# Altium integrated library Q-Resistors.IntLib: 917 symbols (part 6 of 8)
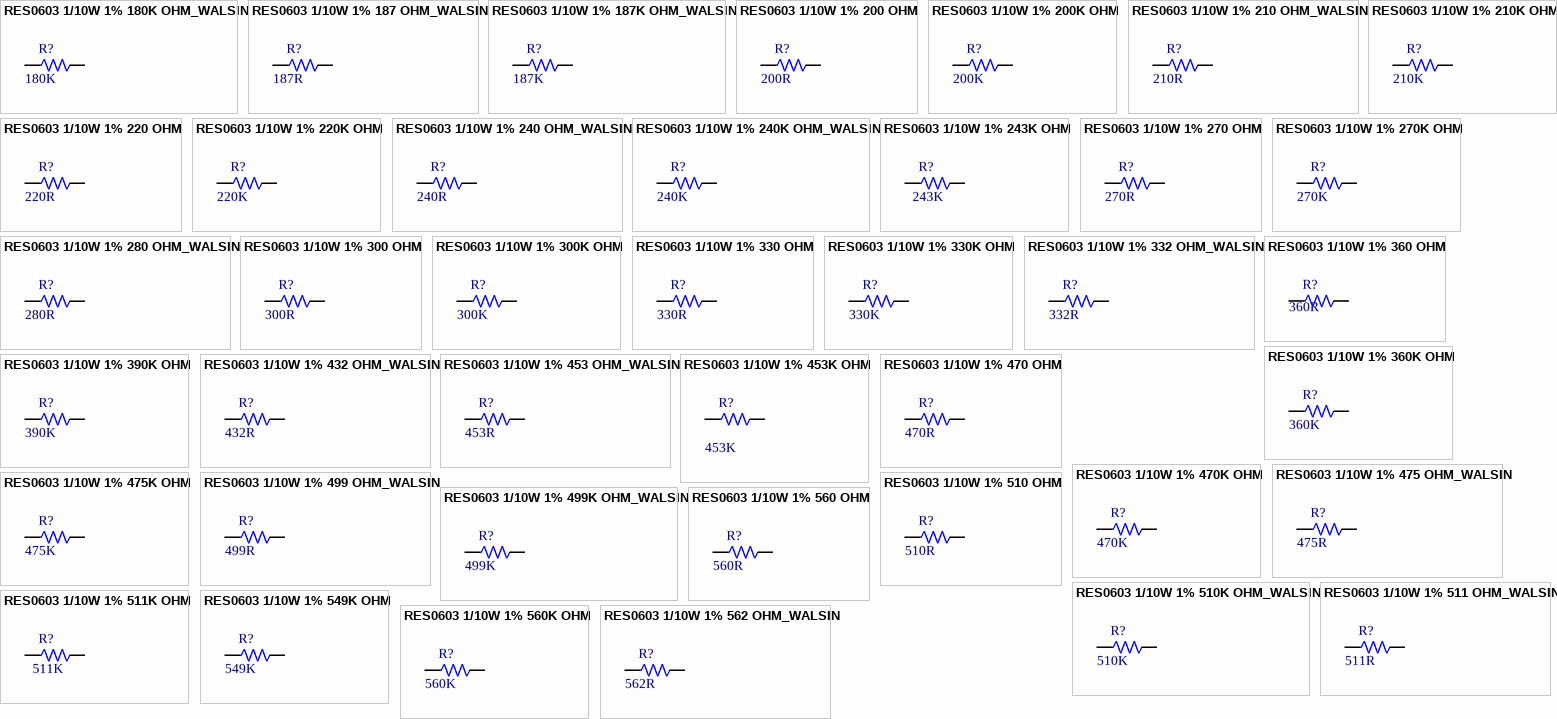
[diagram p27: symbols RES0603 1/10W 1% 180K OHM_WALSIN to RES0603 1/10W 1% 562 OHM_WALSIN]

## RES0603 1/10W 1% 200K OHM
designator R?, comment value 200K  (hidden comment: QCF011030-2003)
GP CHIP RES 200K  OHM 1/10W  1% 0603; Vendor Code: 10010262; SAP: T502200302399; Vendor Name: 东莞市晴远电子有限公司; DIP&SMD: SMD; Power: 1/10W; MFG Part: *; MFG: *; TOL: 1%; Type: Resistor; PACKAGE: 0603; Customer Specific: N/A
footprint 0603-RW
footprint 0603-SW
pins: 1, 2

## RES0603 1/10W 1% 210 OHM_WALSIN
designator R?, comment value 210R  (hidden comment: T502210002399)
CHIP 210 OHM   100PPM +-1% 0603 WALS L; Power: 1/10W; MFG: WALSIN (華新); TOL: 1%; CREATE_NAME: Nathan; DIP&SMD: SMD; Vendor Code: *; SAP: T502210002399; Vendor Name: *; MFG Part: *; Type: Resistor; PACKAGE: 0603; CREATE_TIME: 03-July-2016; Customer Specific: N/A
footprint 0603-RW
footprint 0603-SW
pins: 1, 2

## RES0603 1/10W 1% 210K OHM
designator R?, comment value 210K  (hidden comment: QCF011030-2103)
CHIP RES 210K OHM 1/10W 1% 0603; Vendor Code: 10010262; SAP: T502210302399; Vendor Name: 东莞市晴远电子有限公司; DIP&SMD: SMD; Power: 1/10W; MFG Part: *; MFG: *; TOL: 1%; Type: Resistor; PACKAGE: 0603; Customer Specific: N/A
footprint 0603-RW
footprint 0603-SW
pins: 1, 2

## RES0603 1/10W 1% 220 OHM
designator R?, comment value 220R  (hidden comment: QCF011030-2200)
GP CHIP RES. 220 OHM 1/10W 1% 0603; Vendor Code: 10010262; SAP: T502220002399; Vendor Name: 东莞市晴远电子有限公司; DIP&SMD: SMD; Power: 1/10W; MFG Part: *; MFG: *; TOL: 1%; Type: Resistor; PACKAGE: 0603; Customer Specific: N/A
footprint 0603-RW
footprint 0603-SW
pins: 1, 2

## RES0603 1/10W 1% 220K OHM
designator R?, comment value 220K  (hidden comment: QCF011030-2203)
GP CHIP RES. 220K OHM 1/10W 1% 0603; Vendor Code: 10010262; SAP: T502220302399; Vendor Name: 东莞市晴远电子有限公司; DIP&SMD: SMD; Power: 1/10W; MFG Part: *; MFG: *; TOL: 1%; Type: Resistor; PACKAGE: 0603; Customer Specific: N/A
footprint 0603-RW
footprint 0603-SW
pins: 1, 2

## RES0603 1/10W 1% 240 OHM_WALSIN
designator R?, comment value 240R  (hidden comment: T502240002399)
CHIP 240 OHM   100PPM +-1% 0603 WALS L; Power: 1/10W; MFG: WALSIN (華新); TOL: 1%; CREATE_NAME: Nathan; DIP&SMD: SMD; Vendor Code: *; SAP: T502240002399; Vendor Name: *; MFG Part: *; Type: Resistor; PACKAGE: 0603; CREATE_TIME: 03-July-2016; Customer Specific: N/A
footprint 0603-RW
footprint 0603-SW
pins: 1, 2

## RES0603 1/10W 1% 240K OHM_WALSIN
designator R?, comment value 240K  (hidden comment: T502240302399)
CHIP 240K OHM 100PPM +-1% 0603 WALS L; Power: 1/10W; MFG: WALSIN (華新); TOL: 1%; CREATE_NAME: Nathan; DIP&SMD: SMD; Vendor Code: *; SAP: T502240302399; Vendor Name: *; MFG Part: *; Type: Resistor; PACKAGE: 0603; CREATE_TIME: 03-July-2016; Customer Specific: N/A
footprint 0603-RW
footprint 0603-SW
pins: 1, 2

## RES0603 1/10W 1% 243K OHM
designator R?, comment value 243K  (hidden comment: QCF011030-2433)
CHIP RES 243K OHM 1% 1/10W 0603; SAP: T502243302399; CREATE_NAME: TOM@Deftronics; DIP&SMD: SMD; Vendor Code: *; Power: 1/10W; Vendor Name: *; MFG: *; MFG Part: *; TOL: 1%; Type: Resistor; CREATE_TIME: 21-Nov-2013; PACKAGE: 0603; Customer Specific: N/A
footprint 0603-RW
footprint 0603-SW
pins: 1, 2

## RES0603 1/10W 1% 270 OHM
designator R?, comment value 270R  (hidden comment: QCF011030-2700)
CHIP RES 270 OHM 1/10W 1% 0603; Vendor Code: 10010262; SAP: T502270002399; Vendor Name: 东莞市晴远电子有限公司; DIP&SMD: SMD; Power: 1/10W; MFG Part: *; MFG: *; TOL: 1%; Type: Resistor; PACKAGE: 0603; Customer Specific: N/A
footprint 0603-RW
footprint 0603-SW
pins: 1, 2

## RES0603 1/10W 1% 270K OHM
designator R?, comment value 270K  (hidden comment: QCF011030-2703)
GP CHIP RES. 270K OHM 1/10W 1% 0603; Vendor Code: 10010262; SAP: T502270302399; Vendor Name: 东莞市晴远电子有限公司; DIP&SMD: SMD; Power: 1/10W; MFG Part: *; MFG: *; TOL: 1%; Type: Resistor; PACKAGE: 0603; Customer Specific: N/A
footprint 0603-RW
footprint 0603-SW
pins: 1, 2

## RES0603 1/10W 1% 280 OHM_WALSIN
designator R?, comment value 280R  (hidden comment: T502280002399)
CHIP 280 OHM   100PPM +-1% 0603 WALS L; Power: 1/10W; MFG: WALSIN (華新); TOL: 1%; CREATE_NAME: Nathan; DIP&SMD: SMD; Vendor Code: *; SAP: T502280002399; Vendor Name: *; MFG Part: *; Type: Resistor; PACKAGE: 0603; CREATE_TIME: 03-July-2016; Customer Specific: N/A
footprint 0603-RW
footprint 0603-SW
pins: 1, 2

## RES0603 1/10W 1% 300 OHM
designator R?, comment value 300R  (hidden comment: QCF011030-3000)
GP CHIP RES. 300 OHM 1/10W 1% 0603; Vendor Code: 10010262; SAP: T502300002399; Vendor Name: 东莞市晴远电子有限公司; DIP&SMD: SMD; Power: 1/10W; MFG Part: *; MFG: *; TOL: 1%; Type: Resistor; PACKAGE: 0603; Customer Specific: N/A
footprint 0603-RW
footprint 0603-SW
pins: 1, 2

## RES0603 1/10W 1% 300K OHM
designator R?, comment value 300K  (hidden comment: QCF011030-3003)
CHIP RES. 300K OHM 1/10W 1% 0603; Vendor Code: 10010262; SAP: T502300302399; Vendor Name: 东莞市晴远电子有限公司; DIP&SMD: SMD; Power: 1/10W; MFG Part: *; MFG: *; TOL: 1%; Type: Resistor; PACKAGE: 0603; Customer Specific: N/A
footprint 0603-RW
footprint 0603-SW
pins: 1, 2

## RES0603 1/10W 1% 330 OHM
designator R?, comment value 330R  (hidden comment: QCF011031-3300)
CHIP RES. 330 OHM 1/10W 1% 0603; Vendor Code: 10010262; SAP: T502330002399; Vendor Name: 东莞市晴远电子有限公司; DIP&SMD: SMD; Power: 1/10W; MFG Part: *; MFG: *; TOL: 1%; Type: Resistor; PACKAGE: 0603; Customer Specific: N/A
footprint 0603-RW
footprint 0603-SW
pins: 1, 2

## RES0603 1/10W 1% 330K OHM
designator R?, comment value 330K  (hidden comment: QCF011030-3303)
CHIP RES. 330K OHM 1/10W 1% 0603; Vendor Code: 10010262; SAP: T502330302399; Vendor Name: 东莞市晴远电子有限公司; DIP&SMD: SMD; Power: 1/10W; MFG Part: *; MFG: *; TOL: 1%; Type: Resistor; PACKAGE: 0603; Customer Specific: N/A
footprint 0603-RW
footprint 0603-SW
pins: 1, 2

## RES0603 1/10W 1% 332 OHM_WALSIN
designator R?, comment value 332R  (hidden comment: T502332002399)
CHIP 332 OHM 100PPM +-1% 0603 WALS L; Power: 1/10W; MFG: WALSIN (華新); TOL: 1%; CREATE_NAME: Nathan; DIP&SMD: SMD; Vendor Code: *; SAP: T502332002399; Vendor Name: *; MFG Part: *; Type: Resistor; PACKAGE: 0603; CREATE_TIME: 03-July-2016; Customer Specific: N/A
footprint 0603-RW
footprint 0603-SW
pins: 1, 2

## RES0603 1/10W 1% 360 OHM
designator R?, comment value 360R  (hidden comment: QCF011030-3600)
CHIP RES. 360 OHM 1/10W 1% 0603; Vendor Code: 10010262; SAP: T502360002399; Vendor Name: 东莞市晴远电子有限公司; DIP&SMD: SMD; Power: 1/10W; MFG Part: *; MFG: *; TOL: 1%; Type: Resistor; PACKAGE: 0603; Customer Specific: N/A
footprint 0603-RW
footprint 0603-SW
pins: 1, 2

## RES0603 1/10W 1% 360K OHM
designator R?, comment value 360K  (hidden comment: QCF011030-3603)
CHIP RES 360K OHM 1/10W 1% 0603; Vendor Code: 10010262; SAP: T502360302399; Vendor Name: 东莞市晴远电子有限公司; DIP&SMD: SMD; Power: 1/10W; MFG Part: *; MFG: *; TOL: 1%; Type: Resistor; PACKAGE: 0603; Customer Specific: N/A
footprint 0603-RW
footprint 0603-SW
pins: 1, 2

## RES0603 1/10W 1% 390K OHM
designator R?, comment value 390K  (hidden comment: QCF011030-3903)
CHIP RES 390K OHM 1% 1/10W  0603; SAP: T502390302399; CREATE_NAME: GordonL@Deftronics; DIP&SMD: SMD; Vendor Code: *; Power: 1/10W; Vendor Name: *; MFG Part: *; MFG: *; TOL: 1%; CREATE_TIME: 04-NOV-2012; Type: Resistor; PACKAGE: 0603; Customer Specific: N/A
footprint 0603-RW
footprint 0603-SW
pins: 1, 2

## RES0603 1/10W 1% 432 OHM_WALSIN
designator R?, comment value 432R  (hidden comment: T502432002399)
CHIP 432 OHM   100PPM +-1% 0603 WALS L; Power: 1/10W; MFG: WALSIN (華新); TOL: 1%; CREATE_NAME: Nathan; DIP&SMD: SMD; Vendor Code: *; SAP: T502432002399; Vendor Name: *; MFG Part: *; Type: Resistor; PACKAGE: 0603; CREATE_TIME: 03-July-2016; Customer Specific: N/A
footprint 0603-RW
footprint 0603-SW
pins: 1, 2

## RES0603 1/10W 1% 453 OHM_WALSIN
designator R?, comment value 453R  (hidden comment: T502453002399)
CHIP 453 OHM 100PPM +-1% 0603 WALS L; Power: 1/10W; MFG: WALSIN (華新); TOL: 1%; CREATE_NAME: Nathan; DIP&SMD: SMD; Vendor Code: *; SAP: T502453002399; Vendor Name: *; MFG Part: *; Type: Resistor; PACKAGE: 0603; CREATE_TIME: 03-July-2016; Customer Specific: N/A
footprint 0603-RW
footprint 0603-SW
pins: 1, 2

## RES0603 1/10W 1% 453K OHM
designator R?, comment value 453K  (hidden comment: QCF011030-4533)
CHIP RES 453K OHM 1/10W 1% 0603; SAP: T502453302399; CREATE_NAME: Tom; DIP&SMD: SMD; TOL: 1%; MFG Part: *; MFG: *; Vendor Code: *; Vendor Name: *; Type: Resistor; CREATE_TIME: 23-Apr-2015; Power: 1/10W; Package: 0603; Customer Specific: N/A
footprint 0603-RW
pins: 1, 2

## RES0603 1/10W 1% 470 OHM
designator R?, comment value 470R  (hidden comment: QCF011030-4700)
CHIP RES. 470 OHM 1/10W 1% 0603; Vendor Code: 10010262; SAP: T502470002399; Vendor Name: 东莞市晴远电子有限公司; DIP&SMD: SMD; Power: 1/10W; MFG Part: *; MFG: *; TOL: 1%; Type: Resistor; PACKAGE: 0603; Customer Specific: N/A
footprint 0603-RW
footprint 0603-SW
pins: 1, 2

## RES0603 1/10W 1% 470K OHM
designator R?, comment value 470K  (hidden comment: QCF011030-4703)
CHIP RES. 470K OHM 1/10W 1% 0603; Vendor Code: 10010262; SAP: T502470302399; Vendor Name: 东莞市晴远电子有限公司; DIP&SMD: SMD; Power: 1/10W; MFG Part: *; MFG: *; TOL: 1%; Type: Resistor; PACKAGE: 0603; Customer Specific: N/A
footprint 0603-RW
footprint 0603-SW
pins: 1, 2

## RES0603 1/10W 1% 475 OHM_WALSIN
designator R?, comment value 475R  (hidden comment: T502475002399)
CHIP 475 OHM 100PPM +-1% 0603 WALS L; Power: 1/10W; MFG: WALSIN (華新); TOL: 1%; CREATE_NAME: Nathan; DIP&SMD: SMD; Vendor Code: *; SAP: T502475002399; Vendor Name: *; MFG Part: *; Type: Resistor; PACKAGE: 0603; CREATE_TIME: 03-July-2016; Customer Specific: N/A
footprint 0603-RW
footprint 0603-SW
pins: 1, 2

## RES0603 1/10W 1% 475K OHM
designator R?, comment value 475K  (hidden comment: QCF011030-4753)
CHIP RES. 475K OHM 1/10W 1% 0603; Vendor Code: 10010262; SAP: T502475302399; Vendor Name: 东莞市晴远电子有限公司; DIP&SMD: SMD; Power: 1/10W; MFG Part: *; MFG: *; TOL: 1%; Type: Resistor; PACKAGE: 0603; Customer Specific: N/A
footprint 0603-RW
footprint 0603-SW
pins: 1, 2

## RES0603 1/10W 1% 499 OHM_WALSIN
designator R?, comment value 499R  (hidden comment: T502499002399)
CHIP 499 OHM   100PPM +-1% 0603 WALS L; Power: 1/10W; MFG: WALSIN (華新); TOL: 1%; CREATE_NAME: Nathan; DIP&SMD: SMD; Vendor Code: *; SAP: T502499002399; Vendor Name: *; MFG Part: *; Type: Resistor; PACKAGE: 0603; CREATE_TIME: 03-July-2016; Customer Specific: N/A
footprint 0603-RW
footprint 0603-SW
pins: 1, 2

## RES0603 1/10W 1% 499K OHM_WALSIN
designator R?, comment value 499K  (hidden comment: T502499302399)
RES0603 1/10W 1% 499K OHM; MFG: WALSIN (華新); CREATE_NAME: Nathan; DIP&SMD: SMD; Vendor Code: *; SAP: T502499302399; Power: 1/10W; Vendor Name: *; MFG Part: *; TOL: 1%; Type: Resistor; PACKAGE: 0603; CREATE_TIME: 26-Oct-2016; Customer Specific: N/A
footprint 0603-RW
footprint 0603-SW
pins: 1, 2

## RES0603 1/10W 1% 510 OHM
designator R?, comment value 510R  (hidden comment: QCF011030-5100)
GP CHIP RES. 510 OHM 1/10W 1% 0603; Vendor Code: 10010262; SAP: T502510002399; Vendor Name: 东莞市晴远电子有限公司; DIP&SMD: SMD; Power: 1/10W; MFG Part: *; MFG: *; TOL: 1%; Type: Resistor; PACKAGE: 0603; Customer Specific: N/A
footprint 0603-RW
footprint 0603-SW
pins: 1, 2

## RES0603 1/10W 1% 510K OHM_WALSIN
designator R?, comment value 510K  (hidden comment: T502510302399)
CHIP 510K OHM 100PPM +-1% 0603 WALS L; MFG Part: WR06X5103FTL; Power: 1/10W; MFG: WALSIN (華新); TOL: 1%; CREATE_NAME: Nathan; DIP&SMD: SMD; Vendor Code: *; SAP: T502510302399; Vendor Name: *; Type: Resistor; PACKAGE: 0603; CREATE_TIME: 02-May-2019; Customer Specific: N/A
footprint 0603-RW
footprint 0603-SW
pins: 1, 2

## RES0603 1/10W 1% 511 OHM_WALSIN
designator R?, comment value 511R  (hidden comment: T502511002399)
CHIP 511 OHM   100PPM +-1% 0603 WALS L; Power: 1/10W; MFG: WALSIN (華新); TOL: 1%; CREATE_NAME: Nathan; DIP&SMD: SMD; Vendor Code: *; SAP: T502511002399; Vendor Name: *; MFG Part: *; Type: Resistor; PACKAGE: 0603; CREATE_TIME: 03-July-2016; Customer Specific: N/A
footprint 0603-RW
footprint 0603-SW
pins: 1, 2

## RES0603 1/10W 1% 511K OHM
designator R?, comment value 511K  (hidden comment: QCF011030-5113)
CHIP RES 511K OHM 1% 1/10W 0603; SAP: T502511302399; CREATE_NAME: TOM@Deftronics; DIP&SMD: SMD; Vendor Code: *; Power: 1/10W; Vendor Name: *; MFG: *; MFG Part: *; TOL: 1%; Type: Resistor; CREATE_TIME: 21-Nov-2013; PACKAGE: 0603; Customer Specific: N/A
footprint 0603-RW
footprint 0603-SW
pins: 1, 2

## RES0603 1/10W 1% 549K OHM
designator R?, comment value 549K  (hidden comment: QCF011030-5493)
GP CHIP RES. 549K OHM 1/10W 1% 0603; Vendor Code: 10010262; SAP: T502549302399; Vendor Name: 东莞市晴远电子有限公司; DIP&SMD: SMD; Power: 1/10W; MFG Part: *; MFG: *; TOL: 1%; Type: Resistor; PACKAGE: 0603; Customer Specific: N/A
footprint 0603-RW
footprint 0603-SW
pins: 1, 2

## RES0603 1/10W 1% 560 OHM
designator R?, comment value 560R  (hidden comment: QCF011030-5600)
GP CHIP RES. 560 OHM 1/10W 1% 0603; Vendor Code: 10010262; SAP: T502560002399; Vendor Name: 东莞市晴远电子有限公司; DIP&SMD: SMD; Power: 1/10W; MFG Part: *; MFG: *; TOL: 1%; Type: Resistor; PACKAGE: 0603; Customer Specific: N/A
footprint 0603-RW
footprint 0603-SW
pins: 1, 2

## RES0603 1/10W 1% 560K OHM
designator R?, comment value 560K  (hidden comment: QCF011030-5603)
GP CHIP RES. 560K OHM 1/10W 1% 0603; Vendor Code: 10010262; SAP: T502560302399; Vendor Name: 东莞市晴远电子有限公司; DIP&SMD: SMD; Power: 1/10W; MFG Part: *; MFG: *; TOL: 1%; Type: Resistor; PACKAGE: 0603; Customer Specific: N/A
footprint 0603-RW
footprint 0603-SW
pins: 1, 2

## RES0603 1/10W 1% 562 OHM_WALSIN
designator R?, comment value 562R  (hidden comment: T502562002399)
CHIP 562 OHM   100PPM +-1% 0603 WALS L; Power: 1/10W; MFG: WALSIN (華新); TOL: 1%; CREATE_NAME: Nathan; DIP&SMD: SMD; Vendor Code: *; SAP: T502562002399; Vendor Name: *; MFG Part: *; Type: Resistor; PACKAGE: 0603; CREATE_TIME: 03-July-2016; Customer Specific: N/A
footprint 0603-RW
footprint 0603-SW
pins: 1, 2

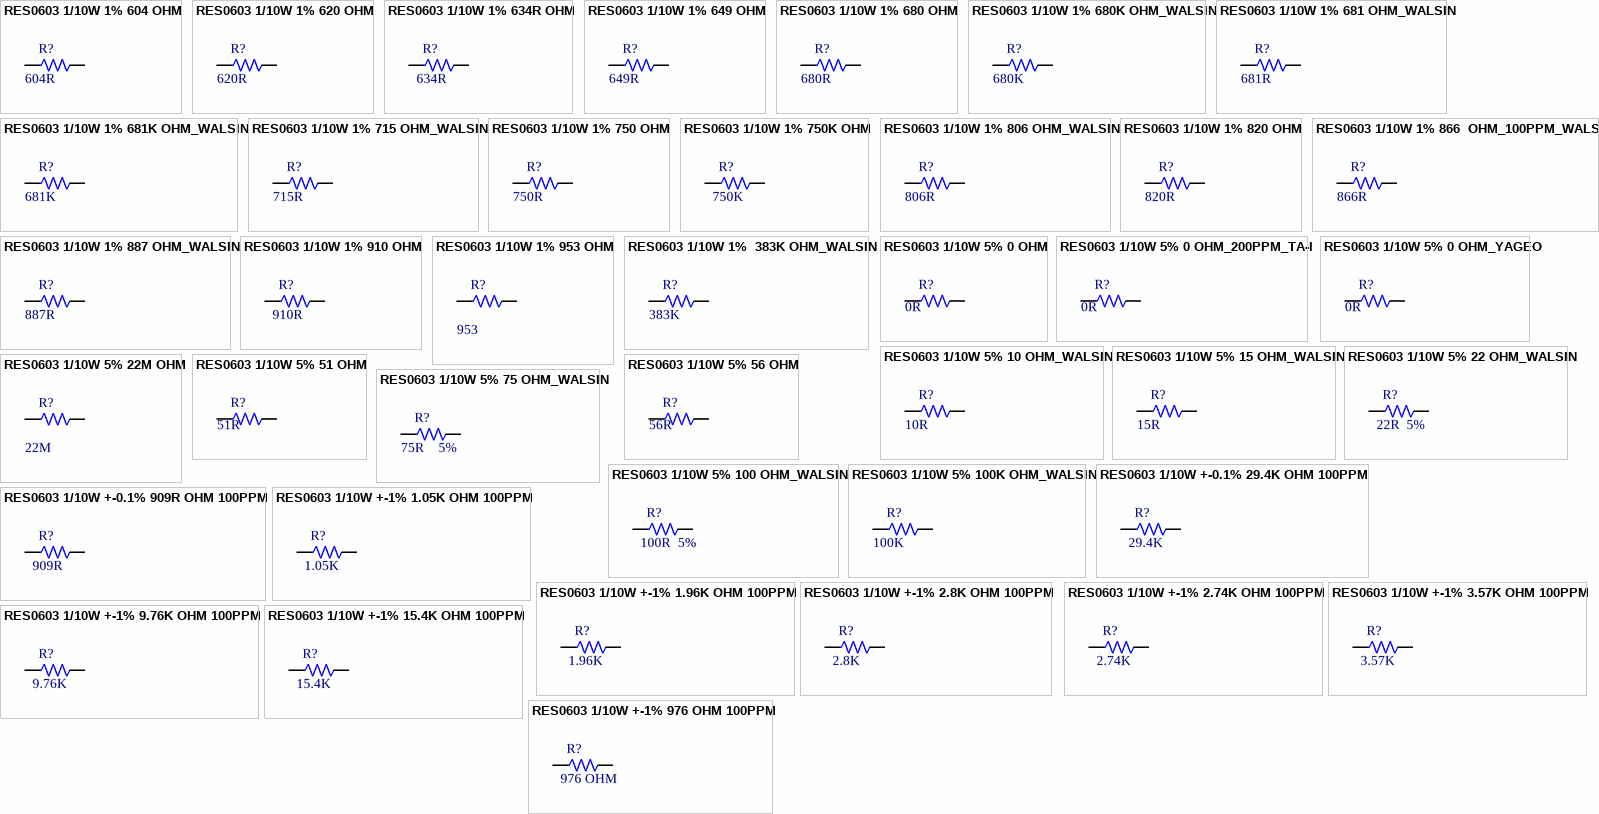
[diagram p17: symbols RES0603 1/10W 1% 604 OHM to RES0603 1/10W +-1% 976 OHM 100PPM]

## RES0603 1/10W 1% 604 OHM
designator R?, comment value 604R  (hidden comment: QCF011030-6040)
CHIP RES 604 OHM 1/10 W 1% 0603; Vendor Code: 10010262; SAP: T502604002399; Power: 1/10W; Vendor Name: 东莞市晴远电子有限公司; DIP&SMD: SMD; MFG Part: *; MFG: *; TOL: 1%; Type: Resistor; PACKAGE: 0603; Customer Specific: N/A
footprint 0603-RW
footprint 0603-SW
pins: 1, 2

## RES0603 1/10W 1% 620 OHM
designator R?, comment value 620R  (hidden comment: QCF011030-6200)
GP CHIP RES. 620 OHM 1/10W 1% 0603; SAP: T502620002399; CREATE_NAME: GordonL@Deftronics; DIP&SMD: SMD; MFG Part: *; Power: 1/10W; MFG: *; Vendor Code: *; Vendor Name: *; TOL: 1%; Type: Resistor; CREATE_TIME: 25-SEP-2013; PACKAGE: 0603; Customer Specific: N/A
footprint 0603-RW
footprint 0603-SW
pins: 1, 2

## RES0603 1/10W 1% 634R OHM
designator R?, comment value 634R  (hidden comment: T502634002399)
TEMP-CHIP 634 OHM 100PPM +-1% 0603 WALS G; Power: 1/10W; TOL: 1%; CREATE_NAME: Tom; DIP&SMD: SMD; Vendor Code: *; SAP: T502634002399; Vendor Name: *; MFG: *; MFG Part: *; Type: Resistor; CREATE_TIME: 10-Sep-2015; PACKAGE: 0603; Customer Specific: N/A
footprint 0603-RW
footprint 0603-SW
pins: 1, 2

## RES0603 1/10W 1% 649 OHM
designator R?, comment value 649R  (hidden comment: QCF011030-6490)
GP CHIP RES. 649 OHM 1/10W 1% 0603; Vendor Code: 10010262; SAP: T502649002399; Vendor Name: 东莞市晴远电子有限公司; DIP&SMD: SMD; Power: 1/10W; MFG Part: *; MFG: *; TOL: 1%; Type: Resistor; PACKAGE: 0603; Customer Specific: N/A
footprint 0603-RW
footprint 0603-SW
pins: 1, 2

## RES0603 1/10W 1% 680 OHM
designator R?, comment value 680R  (hidden comment: QCF011030-6800)
CHIP RES 680 OHM 1/10W 1% 0603; Vendor Code: 10010262; SAP: T502680002399; Vendor Name: 东莞市晴远电子有限公司; DIP&SMD: SMD; Power: 1/10W; MFG Part: *; MFG: *; TOL: 1%; Type: Resistor; PACKAGE: 0603; Customer Specific: N/A
footprint 0603-RW
footprint 0603-SW
pins: 1, 2

## RES0603 1/10W 1% 680K OHM_WALSIN
designator R?, comment value 680K  (hidden comment: T502680302399)
CHIP 680K OHM  100PPM +-1% 0603 WALS L; Power: 1/10W; MFG: WALSIN (華新); TOL: 1%; CREATE_NAME: Nathan; DIP&SMD: SMD; Vendor Code: *; SAP: T502680302399; Vendor Name: *; MFG Part: *; Type: Resistor; PACKAGE: 0603; CREATE_TIME: 03-July-2016; Customer Specific: N/A
footprint 0603-RW
footprint 0603-SW
pins: 1, 2

## RES0603 1/10W 1% 681 OHM_WALSIN
designator R?, comment value 681R  (hidden comment: T502681002399)
CHIP 681 OHM   100PPM +-1% 0603 WALS L; Power: 1/10W; MFG: WALSIN (華新); TOL: 1%; CREATE_NAME: Nathan; DIP&SMD: SMD; Vendor Code: *; SAP: T502681002399; Vendor Name: *; MFG Part: *; Type: Resistor; PACKAGE: 0603; CREATE_TIME: 03-July-2016; Customer Specific: N/A
footprint 0603-RW
footprint 0603-SW
pins: 1, 2

## RES0603 1/10W 1% 681K OHM_WALSIN
designator R?, comment value 681K  (hidden comment: T502681302399)
CHIP 681K OHM  100PPM +-1% 0603 WALS L; Power: 1/10W; MFG: WALSIN (華新); TOL: 1%; CREATE_NAME: Nathan; DIP&SMD: SMD; Vendor Code: *; SAP: T502681302399; Vendor Name: *; MFG Part: *; Type: Resistor; PACKAGE: 0603; CREATE_TIME: 03-July-2016; Customer Specific: N/A
footprint 0603-RW
footprint 0603-SW
pins: 1, 2

## RES0603 1/10W 1% 715 OHM_WALSIN
designator R?, comment value 715R  (hidden comment: T502715002399)
CHIP 715 OHM   100PPM +-1% 0603 WALS L; Power: 1/10W; MFG: WALSIN (華新); TOL: 1%; CREATE_NAME: Nathan; DIP&SMD: SMD; Vendor Code: *; SAP: T502715002399; Vendor Name: *; MFG Part: *; Type: Resistor; PACKAGE: 0603; CREATE_TIME: 03-July-2016; Customer Specific: N/A
footprint 0603-RW
footprint 0603-SW
pins: 1, 2

## RES0603 1/10W 1% 750 OHM
designator R?, comment value 750R  (hidden comment: QCF011030-7500)
GP CHIP RES. 750 OHM 1/10W 1% 0603; Vendor Code: 10010262; SAP: T502750002399; Vendor Name: 东莞市晴远电子有限公司; DIP&SMD: SMD; Power: 1/10W; MFG Part: *; MFG: *; TOL: 1%; Type: Resistor; PACKAGE: 0603; Customer Specific: N/A
footprint 0603-RW
footprint 0603-SW
pins: 1, 2

## RES0603 1/10W 1% 750K OHM
designator R?, comment value 750K  (hidden comment: T502750302399)
CHIP RES 750K OHM 1% 1/10W 0603; CREATE_NAME: Nathan; DIP&SMD: SMD; Vendor Code: *; SAP: T502750302399; Power: 1/10W; Vendor Name: *; MFG: *; MFG Part: *; TOL: 1%; Type: Resistor; CREATE_TIME: 23-July-2015; PACKAGE: 0603; Customer Specific: N/A
footprint 0603-RW
footprint 0603-SW
pins: 1, 2

## RES0603 1/10W 1% 806 OHM_WALSIN
designator R?, comment value 806R  (hidden comment: T502806002399)
CHIP 806 OHM   100PPM +-1% 0603 WALS L; Power: 1/10W; MFG: WALSIN (華新); TOL: 1%; CREATE_NAME: Nathan; DIP&SMD: SMD; Vendor Code: *; SAP: T502806002399; Vendor Name: *; MFG Part: *; Type: Resistor; PACKAGE: 0603; CREATE_TIME: 03-July-2016; Customer Specific: N/A
footprint 0603-RW
footprint 0603-SW
pins: 1, 2

## RES0603 1/10W 1% 820 OHM
designator R?, comment value 820R  (hidden comment: QCF011030-8200)
GP CHIP RES 820 OHM 1/10W 1% 0603; Vendor Code: 10010262; SAP: T502820002399; Vendor Name: 东莞市晴远电子有限公司; DIP&SMD: SMD; Power: 1/10W; MFG Part: *; MFG: *; TOL: 1%; Type: Resistor; PACKAGE: 0603; Customer Specific: N/A
footprint 0603-RW
footprint 0603-SW
pins: 1, 2

## RES0603 1/10W 1% 866  OHM_100PPM_WALSIN
designator R?, comment value 866R  (hidden comment: T502866002399)
CHIP 866 OHM 100PPM +-1% 0603 WALS L; MFG Part: WR06X8660FTL; Power: 1/10W; MFG: WALSIN; TOL: 1%; CREATE_NAME: Tom; DIP&SMD: SMD; Vendor Code: *; SAP: T502866002399; Vendor Name: *; Type: Resistor; PACKAGE: 0603; CREATE_TIME: 07-Aug-2019; Customer Specific: N/A
footprint 0603-RW
footprint 0603-SW
pins: 1, 2

## RES0603 1/10W 1% 887 OHM_WALSIN
designator R?, comment value 887R  (hidden comment: T502887002399)
CHIP 887 OHM 100PPM +-1% 0603 WALS L; Power: 1/10W; MFG: WALSIN (華新); TOL: 1%; CREATE_NAME: Nathan; DIP&SMD: SMD; Vendor Code: *; SAP: T502887002399; Vendor Name: *; MFG Part: *; Type: Resistor; PACKAGE: 0603; CREATE_TIME: 03-July-2016; Customer Specific: N/A
footprint 0603-RW
footprint 0603-SW
pins: 1, 2

## RES0603 1/10W 1% 910 OHM
designator R?, comment value 910R  (hidden comment: QCF011030-9100)
CHIP RES 910 OHM 1% 1/10W 0603; SAP: T502910002399; CREATE_NAME: Nathan@Tymphany; DIP&SMD: SMD; Vendor Code: *; Power: 1/10W; Vendor Name: *; MFG: *; MFG Part: *; TOL: 1%; Type: Resistor; CREATE_TIME: 24-July-2014; PACKAGE: 0603; Customer Specific: N/A
footprint 0603-RW
footprint 0603-SW
pins: 1, 2

## RES0603 1/10W 1% 953 OHM
designator R?, comment value 953  (hidden comment: QCF011030-9530)
CHIP RES 953 OHM 1% 1/10W 0603; SAP: T502953002399; CREATE_NAME: Tom; DIP&SMD: SMD; TOL: 1%; MFG Part: *; MFG: *; Vendor Code: *; Vendor Name: *; Type: Resistor; CREATE_TIME: 14-Apr-2015; Power: 1/10W; Package: 0603; Customer Specific: N/A
footprint 0603-RW
pins: 1, 2

## RES0603 1/10W 1%  383K OHM_WALSIN
designator R?, comment value 383K  (hidden comment: T502383302399)
CHIP 383K OHM  100PPM +-1% 0603 WALS L; Power: 1/10W; MFG: WALSIN (華新); TOL: 1%; CREATE_NAME: Nathan; DIP&SMD: SMD; Vendor Code: *; SAP: T502383302399; Vendor Name: *; MFG Part: *; Type: Resistor; PACKAGE: 0603; CREATE_TIME: 03-July-2016; Customer Specific: N/A
footprint 0603-RW
footprint 0603-SW
pins: 1, 2

## RES0603 1/10W 5% 0 OHM
designator R?, comment value 0R  (hidden comment: QCF015030-0000)
GP CHIP RES. 0 OHM 1/10W 5% 0603; Vendor Code: 10010262; SAP: T5020000024A9; Vendor Name: 东莞市晴远电子有限公司; DIP&SMD: SMD; Power: 1/10W; MFG Part: *; MFG: *; TOL: 5%; Type: Resistor; PACKAGE: 0603; Customer Specific: N/A
footprint 0603-RW
footprint 0603-SW
pins: 1, 2

## RES0603 1/10W 5% 0 OHM_200PPM_TA-I
designator R?, comment value 0R  (hidden comment: T5020000024A4)
CHIP 0 OHM 200PPM +-5% 0603 TA-I L; Power: 1/10W; MFG: TA-I (大毅); TOL: 5%; CREATE_NAME: Nathan; DIP&SMD: SMD; Vendor Code: *; SAP: T5020000024A4; Vendor Name: *; MFG Part: *; Type: Resistor; PACKAGE: 0603; CREATE_TIME: 03-July-2016; Customer Specific: N/A
footprint 0603-RW
footprint 0603-SW
pins: 1, 2

## RES0603 1/10W 5% 0 OHM_YAGEO
designator R?, comment value 0R  (hidden comment: T5020000024A1)
CHIP 0 OHM 100PPM +-5% 0603 YAGE L; MFG Part: RC0603JR-070RL; Power: 1/10W; MFG: YAGEO (國巨); DIP&SMD: SMD; CREATE_NAME: Nathan; Vendor Code: *; SAP: T5020000024A1; Vendor Name: *; TOL: *; Type: Resistor; PACKAGE: 0603; Customer Specific: N/A; CREATE_TIME: 12-Jun-2020
footprint 0603-RW
footprint 0603-SW
pins: 1, 2

## RES0603 1/10W 5% 10 OHM_WALSIN
designator R?, comment value 10R  (hidden comment: T5020100024A9)
CHIP 10 OHM 200PPM +-5% 0603 WALS L; MFG Part: WR06X100 JTL; Power: 1/10W; MFG: WALSIN (華新); TOL: 5%; CREATE_NAME: Nathan; DIP&SMD: SMD; Vendor Code: *; SAP: T5020100024A9; Vendor Name: *; Type: Resistor; PACKAGE: 0603; CREATE_TIME: 16-Apr-2019; Customer Specific: N/A
footprint 0603-RW
footprint 0603-SW
pins: 1, 2

## RES0603 1/10W 5% 15 OHM_WALSIN
designator R?, comment value 15R  (hidden comment: T502015002499)
CHIP 15 OHM 100PPM +-5% 0603 WALS L; MFG Part: WR06X150JTL; Power: 1/10W; MFG: WALSIN (華新); TOL: 5%; CREATE_NAME: Nathan; DIP&SMD: SMD; Vendor Code: *; SAP: T502015002499; Vendor Name: *; Type: Resistor; PACKAGE: 0603; CREATE_TIME: 14-June-2019; Customer Specific: N/A
footprint 0603-RW
footprint 0603-SW
pins: 1, 2

## RES0603 1/10W 5% 22 OHM_WALSIN
designator R?, comment value 22R  TOL: 5%  (hidden comment: T5020220024A9)
CHIP 22 OHM 200PPM +-5% 0603 WALS L; Power: 1/10W; MFG: WALSIN (華新); CREATE_NAME: Nathan; DIP&SMD: SMD; Vendor Code: *; SAP: T5020220024A9; Vendor Name: *; MFG Part: *; Type: Resistor; CREATE_TIME: 03-July-2016; PACKAGE: 0603; Customer Specific: N/A
footprint 0603-RW
footprint 0603-SW
pins: 1, 2

## RES0603 1/10W 5% 22M OHM
designator R?, comment value 22M  (hidden comment: QCF015030-2260)
CHIP RES 22M OHM 1/10W 5% 0603; SAP: T502022602499; CREATE_NAME: Tom; DIP&SMD: SMD; TOL: 5%; MFG Part: *; MFG: *; Vendor Code: *; Vendor Name: *; Type: Resistor; CREATE_TIME: 23-Apr-2015; Power: 1/10W; Package: 0603; Customer Specific: N/A
footprint 0603-RW
pins: 1, 2

## RES0603 1/10W 5% 51 OHM
designator R?, comment value 51R  (hidden comment: QCF015030-5100)
GP CHIP RES. 51 OHM 1/10W 5% 0603; Vendor Code: 10010262; SAP: T502051002499; Vendor Name: 东莞市晴远电子有限公司; DIP&SMD: SMD; Power: 1/10W; MFG Part: *; MFG: *; TOL: 5%; Type: Resistor; PACKAGE: 0603; Customer Specific: N/A
footprint 0603-RW
footprint 0603-SW
pins: 1, 2

## RES0603 1/10W 5% 56 OHM
designator R?, comment value 56R  (hidden comment: QCF015030-5600)
GP CHIP RES. 56 OHM 1/10W 5% 0603; Vendor Code: 10010262; SAP: T502056002499; Vendor Name: 东莞市晴远电子有限公司; DIP&SMD: SMD; Power: 1/10W; MFG Part: *; MFG: *; TOL: 5%; Type: Resistor; PACKAGE: 0603; Customer Specific: N/A
footprint 0603-RW
footprint 0603-SW
pins: 1, 2

## RES0603 1/10W 5% 75 OHM_WALSIN
designator R?, comment value 75R  TOL: 5%  (hidden comment: T5020750024A9)
CHIP 75 OHM 200PPM +-5% 0603 WALS L; Power: 1/10W; MFG: WALSIN; CREATE_NAME: Nathan; DIP&SMD: SMD; Vendor Code: *; SAP: T5020750024A9; Vendor Name: *; MFG Part: *; Type: Resistor; CREATE_TIME: 03-July-2016; PACKAGE: 0603; Customer Specific: N/A
footprint 0603-RW
footprint 0603-SW
pins: 1, 2

## RES0603 1/10W 5% 100 OHM_WALSIN
designator R?, comment value 100R  TOL: 5%  (hidden comment: T5020101024A9)
CHIP 100 OHM 200PPM +-5% 0603 WALS L; Power: 1/10W; MFG: WALSIN (華新); CREATE_NAME: Nathan; DIP&SMD: SMD; Vendor Code: *; SAP: T5020101024A9; Vendor Name: *; MFG Part: *; Type: Resistor; CREATE_TIME: 03-July-2016; PACKAGE: 0603; Customer Specific: N/A
footprint 0603-RW
footprint 0603-SW
pins: 1, 2

## RES0603 1/10W 5% 100K OHM_WALSIN
designator R?, comment value 100K  (hidden comment: T5020104024A9)
CHIP 100K OHM 200PPM +-5% 0603 WALS L; Power: 1/10W; MFG: WALSIN (華新); TOL: 5%; CREATE_NAME: Nathan; DIP&SMD: SMD; Vendor Code: *; SAP: T5020104024A9; Vendor Name: *; MFG Part: *; Type: Resistor; PACKAGE: 0603; CREATE_TIME: 03-July-2016; Customer Specific: N/A
footprint 0603-RW
footprint 0603-SW
pins: 1, 2

## RES0603 1/10W +-0.1% 29.4K OHM 100PPM
designator R?, comment value 29.4K  (hidden comment: T502294202399)
CHIP 29.4K OHM 100PPM +-1% 0603 WALS L; MFG Part: WR06X2942FTL; Power: 1/10W; MFG: WALSIN; CREATE_NAME: Tom; TOL: +-0.1%; DIP&SMD: SMD; Vendor Code: *; SAP: T502294202399; Vendor Name: *; Type: Resistor; CREATE_TIME: 14-Sep-2016; PACKAGE: 0603; Customer Specific: N/A
footprint 0603-RW
footprint 0603-SW
pins: 1, 2

## RES0603 1/10W +-0.1% 909R OHM 100PPM
designator R?, comment value 909R  (hidden comment: T502909002399)
CHIP 909 OHM 100PPM +-1% 0603 WALS L; MFG Part: WR06X9090FTL; Power: 1/10W; MFG: WALSIN; CREATE_NAME: Tom; TOL: +-0.1%; DIP&SMD: SMD; Vendor Code: *; SAP: T502909002399; Vendor Name: *; Type: Resistor; CREATE_TIME: 14-Sep-2016; PACKAGE: 0603; Customer Specific: N/A
footprint 0603-RW
footprint 0603-SW
pins: 1, 2

## RES0603 1/10W +-1% 1.05K OHM 100PPM
designator R?, comment value 1.05K  (hidden comment: T502105102399)
CHIP 1.05K OHM 100PPM +-1% 0603 WALS L; Power: 0.1W; MFG: WALSIN; CREATE_NAME: Tom; DIP&SMD: SMD; Vendor Code: *; SAP: T502105102399; Vendor Name: *; MFG Part: *; Type: Resistor; CREATE_TIME: 17-Dec-2015; PACKAGE: 0603; TOL: +-1%; Customer Specific: N/A
footprint 0603-RW
footprint 0603-SW
pins: 1, 2

## RES0603 1/10W +-1% 1.96K OHM 100PPM
designator R?, comment value 1.96K  (hidden comment: T502196102399)
CHIP 1.96K OHM 100PPM +-1% 0603 WALS L; Power: 0.1W; MFG: WALSIN; CREATE_NAME: Tom; DIP&SMD: SMD; Vendor Code: *; SAP: T502196102399; Vendor Name: *; MFG Part: *; Type: Resistor; CREATE_TIME: 17-Dec-2015; PACKAGE: 0603; TOL: +-1%; Customer Specific: N/A
footprint 0603-RW
footprint 0603-SW
pins: 1, 2

## RES0603 1/10W +-1% 2.8K OHM 100PPM
designator R?, comment value 2.8K  (hidden comment: T502280102399)
CHIP 2.8K OHM 100PPM +-1% 0603 WALS L; Power: 0.1W; MFG: WALSIN; CREATE_NAME: Tom; DIP&SMD: SMD; Vendor Code: *; SAP: T502280102399; Vendor Name: *; MFG Part: *; Type: Resistor; CREATE_TIME: 17-Dec-2015; PACKAGE: 0603; TOL: +-1%; Customer Specific: N/A
footprint 0603-RW
footprint 0603-SW
pins: 1, 2

## RES0603 1/10W +-1% 2.74K OHM 100PPM
designator R?, comment value 2.74K  (hidden comment: T502274102399)
CHIP 2.74K OHM 100PPM +-1% 0603 WALS L; Power: 0.1W; MFG: WALSIN; CREATE_NAME: Tom; DIP&SMD: SMD; Vendor Code: *; SAP: T502274102399; Vendor Name: *; MFG Part: *; Type: Resistor; CREATE_TIME: 17-Dec-2015; PACKAGE: 0603; TOL: +-1%; Customer Specific: N/A
footprint 0603-RW
footprint 0603-SW
pins: 1, 2

## RES0603 1/10W +-1% 3.57K OHM 100PPM
designator R?, comment value 3.57K  (hidden comment: T502357102399)
CHIP 3.57K OHM 100PPM +-1% 0603 WALS L; Power: 0.1W; MFG: WALSIN; CREATE_NAME: Tom; DIP&SMD: SMD; Vendor Code: *; SAP: T502357102399; Vendor Name: *; MFG Part: *; Type: Resistor; CREATE_TIME: 17-Dec-2015; PACKAGE: 0603; TOL: +-1%; Customer Specific: N/A
footprint 0603-RW
footprint 0603-SW
pins: 1, 2

## RES0603 1/10W +-1% 9.76K OHM 100PPM
designator R?, comment value 9.76K  (hidden comment: T502976102399)
CHIP 9.76K OHM 100PPM +-1% 0603 WALS L; Power: 0.1W; MFG: WALSIN; CREATE_NAME: Tom; DIP&SMD: SMD; Vendor Code: *; SAP: T502976102399; Vendor Name: *; MFG Part: *; Type: Resistor; CREATE_TIME: 17-Dec-2015; PACKAGE: 0603; TOL: +-1%; Customer Specific: N/A
footprint 0603-RW
footprint 0603-SW
pins: 1, 2

## RES0603 1/10W +-1% 15.4K OHM 100PPM
designator R?, comment value 15.4K  (hidden comment: T502154202399)
CHIP 15.4K OHM 100PPM +-1% 0603 WALS L; Power: 0.1W; MFG: WALSIN; CREATE_NAME: Tom; DIP&SMD: SMD; Vendor Code: *; SAP: T502154202399; Vendor Name: *; MFG Part: *; Type: Resistor; CREATE_TIME: 17-Dec-2015; PACKAGE: 0603; TOL: +-1%; Customer Specific: N/A
footprint 0603-RW
footprint 0603-SW
pins: 1, 2

## RES0603 1/10W +-1% 976 OHM 100PPM
designator R?, comment value 976 OHM  (hidden comment: T502976002399)
CHIP 976 OHM 100PPM +-1% 0603 WALS L; Power: 0.1W; MFG: WALSIN; CREATE_NAME: Tom; DIP&SMD: SMD; Vendor Code: *; SAP: T502976002399; Vendor Name: *; MFG Part: *; Type: Resistor; CREATE_TIME: 17-Dec-2015; PACKAGE: 0603; TOL: +-1%; Customer Specific: N/A
footprint 0603-RW
footprint 0603-SW
pins: 1, 2

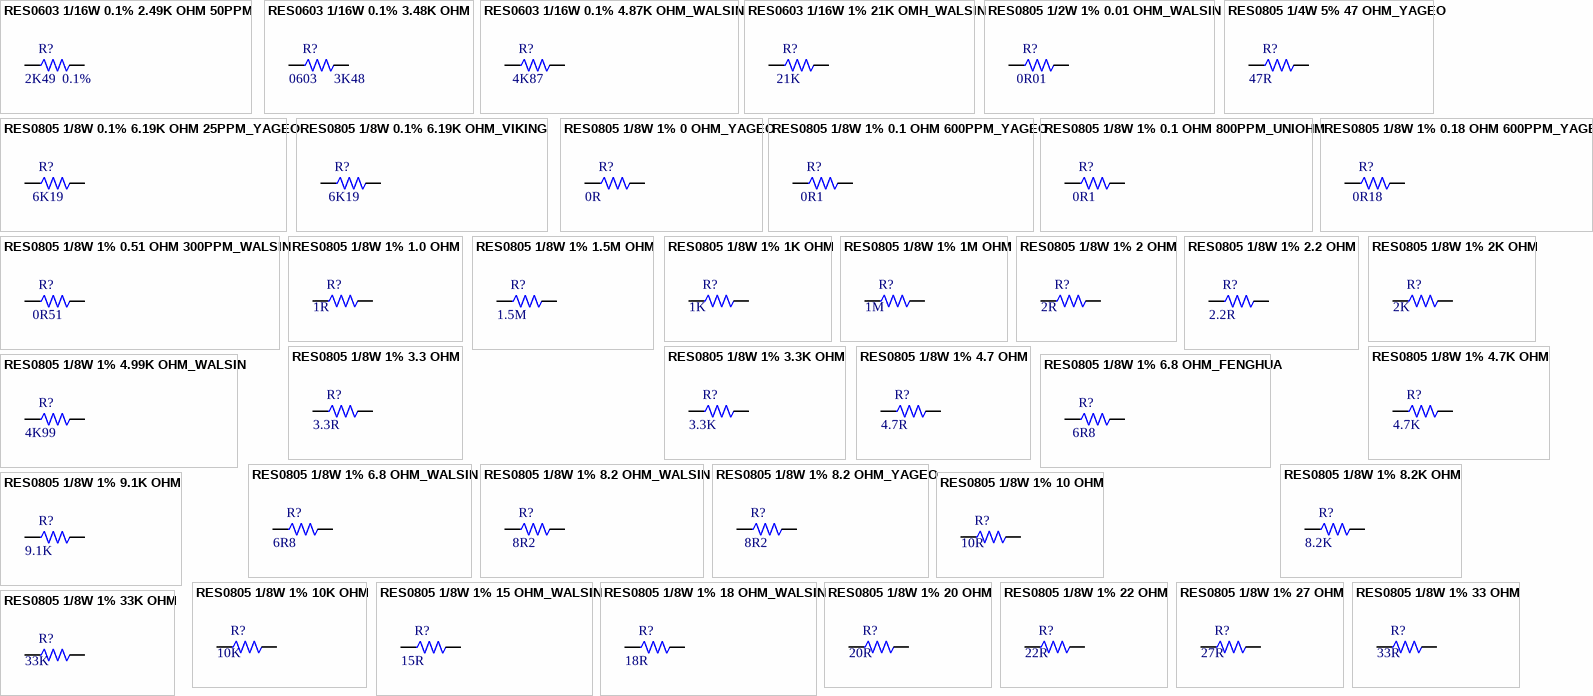
[diagram p18: symbols RES0603 1/16W 0.1% 2.49K OHM 50PPM to RES0805 1/8W 1% 33K OHM]

## RES0603 1/16W 0.1% 2.49K OHM 50PPM
designator R?, comment value 2K49  TOL: 0.1%  (hidden comment: QCF167030-2491)
CHIP RES 2.49K OHM 0.1% 1/16W 50PPM 0603 WF06T2491BTL; SAP: T501249102129; MFG: WALSIN; CREATE_NAME: Nathan; DIP&SMD: SMD; Vendor Code: *; Power: 1/16W; Vendor Name: *; MFG Part: WF06T2491BTL; Type: Resistor; CREATE_TIME: 02-Apr-2015; PACKAGE: 0603; Customer Specific: N/A
footprint 0603-RW
footprint 0603-SW
pins: 1, 2

## RES0603 1/16W 0.1% 3.48K OHM
designator R?, comment value 3K48  Package: 0603  (hidden comment: T501348102129)
CHIP 3.48K OHM 50PPM +-0.1% 0603 WALS L; MFG Part: WF06T3481BTL; TOL: 0.1%; MFG: WALSIN; Power: 1/16 W; CREATE_NAME: Tom; DIP&SMD: SMD; SAP: T501348102129; Vendor Code: *; Vendor Name: *; Type: Resistor; CREATE_TIME: 12-Apr-2016; Customer Specific: N/A
footprint 0603-RW
pins: 1, 2

## RES0603 1/16W 0.1% 4.87K OHM_WALSIN
designator R?, comment value 4K87  (hidden comment: T501487102129)
CHIP 4.87K OHM 50PPM +-0.1% 0603 WALS L; Power: 1/16 W; MFG: WALSIN (華新); TOL: 0.1%; CREATE_NAME: Nathan; DIP&SMD: SMD; Vendor Code: *; SAP: T501487102129; Vendor Name: *; MFG Part: *; Type: Resistor; CREATE_TIME: 03-July-2016; PACKAGE: 0603; Customer Specific: N/A
footprint 0603-RW
footprint 0603-SW
pins: 1, 2

## RES0603 1/16W 1% 21K OMH_WALSIN
designator R?, comment value 21K  (hidden comment: T502210202399)
CHIP 21K OHM 100PPM +-1% 0603 WALS L; TOL: 1%; MFG: WALSIN (華新); Power: 1/10W; CREATE_NAME: Nathan; DIP&SMD: SMD; SAP: T502210202399; Package: 0603; MFG Part: *; Vendor Code: *; Vendor Name: *; Type: Resistor; CREATE_TIME: 08-Feb-2018; Customer Specific: N/A
footprint 0603-SW
footprint 0603-RW
pins: 1, 2

## RES0805 1/2W 1% 0.01 OHM_WALSIN
designator R?  value 0R01  (hidden comment: *)
CHIP 0.01 OHM 300PPM +-1% 0805 WALS; MFG Part: WW08RR010FTL; Power: 0.5W; MFG: WALSIN (華新); CREATE_NAME: Nathan; TOL: 1%; DIP&SMD: SMD; Vendor Code: *; SAP: *; Vendor Name: *; Type: Resistor; CREATE_TIME: 25-Aug-2020; PACKAGE: 0805; Customer Specific: N/A
footprint 0805-RW
pins: 1, 2

## RES0805 1/4W 5% 47 OHM_YAGEO
designator R?  value 47R  (hidden comment: *)
CHIP 47 OHM +-5% 0805 YAGE L; MFG Part: SR0805JR-7W47RL; Power: 1/4W; MFG: YAGEO (國巨); TOL: 5%; CREATE_Name: Nathan; DIP&SMD: SMD; Vendor Code: *; SAP: *; Vendor Name: *; Type: Resistor; CREATE_Time: 25-Aug-2020; PACKAGE: 0805; Customer Specific: N/A
footprint 0805-RW
footprint 0805-SW
pins: 1, 2

## RES0805 1/8W 0.1% 6.19K OHM 25PPM_YAGEO
designator R?  value 6K19  (hidden comment: *)
CHIP 6.19K OHM 25PPM +-0.1% 0805 L; MFG Part: RT0805BRD076K19L; Power: 0.125W; MFG: YAGEO; CREATE_NAME: Nathan; TOL: 0.1%; DIP&SMD: SMD; Vendor Code: *; SAP: *; Vendor Name: *; Type: Resistor; CREATE_TIME: 18-Aug-2020; PACKAGE: 0805; Customer Specific: N/A
footprint 0805-RW
pins: 1, 2

## RES0805 1/8W 0.1% 6.19K OHM_VIKING
designator R?  value 6K19  (hidden comment: *)
CHIP 6.19K OHM +-0.1% 0805; MFG Part: AR05BTCW6191; Power: 0.125W; MFG: viking; CREATE_NAME: Nathan; TOL: 0.1%; DIP&SMD: SMD; Vendor Code: *; SAP: *; Vendor Name: *; Type: Resistor; CREATE_TIME: 27-Aug-2020; PACKAGE: 0805; Customer Specific: N/A
footprint 0805-RW
pins: 1, 2

## RES0805 1/8W 1% 0 OHM_YAGEO
designator R?, comment value 0R  (hidden comment: T5020000034A1)
CHIP 0 OHM 200PPM +-5% 0805 YAGE L; Power: 1/8W; MFG: YAGEO (國巨); TOL: 1%; CREATE_Name: Nathan; DIP&SMD: SMD; Vendor Code: *; SAP: T5020000034A1; Vendor Name: *; MFG Part: *; Type: Resistor; CREATE_Time: 03-July-2016; PACKAGE: 0805; Customer Specific: N/A
footprint 0805-RW
footprint 0805-SW
pins: 1, 2

## RES0805 1/8W 1% 0.1 OHM 600PPM_YAGEO
designator R?, comment value 0R1  (hidden comment: T710600038000)
CHIP 0.1 OHM 600PPM +-1% 0805 L; MFG Part: RL0805FR-070R1L; Power: 0.125W; MFG: YAGEO; CREATE_NAME: Nathan; TOL: 1%; DIP&SMD: SMD; Vendor Code: *; SAP: T710600038000; Vendor Name: *; Type: Resistor; CREATE_TIME: 21-May-2020; PACKAGE: 0805; Customer Specific: N/A
footprint 0805-RW
pins: 1, 2

## RES0805 1/8W 1% 0.1 OHM 800PPM_UNIOHM
designator R?, comment value 0R1  (hidden comment: T502100C033FQ)
CHIP 0.1 OHM 800PPM +-1% 0805 UNIO L; MFG Part: 0805W8F100LT5E; Power: 0.125W; MFG: UNIOHM    (厚生); CREATE_NAME: Nathan; TOL: 1%; DIP&SMD: SMD; Vendor Code: *; SAP: T502100C033FQ; Vendor Name: *; Type: Resistor; CREATE_TIME: 03-Jun-2020; PACKAGE: 0805; Customer Specific: N/A
footprint 0805-RW
pins: 1, 2

## RES0805 1/8W 1% 0.18 OHM 600PPM_YAGEO
designator R?  value 0R18
CHIP 0.18 OHM 600PPM +-1% 0805 YAGE L; MFG Part: RL0805FR-070R18L; Power: 0.125W; MFG: YAGEO; CREATE_NAME: Nathan; TOL: 1%; DIP&SMD: SMD; Vendor Code: *; SAP: *; Vendor Name: *; Type: Resistor; CREATE_TIME: 19-Nov-2020; PACKAGE: 0805; Customer Specific: N/A
footprint 0805-RW
pins: 1, 2

## RES0805 1/8W 1% 0.51 OHM 300PPM_WALSIN
designator R?  value 0R51  (hidden comment: *)
CHIP 0.51 OHM 300PPM +-1% 0805 WALS; MFG Part: WW08XR510FTL; Power: 0.125W; MFG: WALSIN (華新); CREATE_NAME: Nathan; TOL: 1%; DIP&SMD: SMD; Vendor Code: *; SAP: *; Vendor Name: *; Type: Resistor; CREATE_TIME: 06-Aug-2020; PACKAGE: 0805; Customer Specific: N/A
footprint 0805-RW
pins: 1, 2

## RES0805 1/8W 1% 1.0 OHM
designator R?, comment value 1R  (hidden comment: QCF081020-1008)
GP CHIP RES 1 OHM 1/8W 1% 0805; Vendor Code: 10010262; SAP: T502100B03399; Vendor Name: 东莞市晴远电子有限公司; DIP&SMD: SMD; Power: 1/8W; MFG Part: *; MFG: *; TOL: 1%; Type: Resistor; PACKAGE: 0805; Customer Specific: N/A
footprint 0805-RW
footprint 0805-SW
pins: 1, 2

## RES0805 1/8W 1% 1.5M OHM
designator R?, comment value 1.5M  (hidden comment: QCF081020-1504)
CHIP RES. 1.5M OHM 1/8W 1% 0805; Vendor Code: 10010262; SAP: T502150403399; Vendor Name: 东莞市晴远电子有限公司; DIP&SMD: SMD; Power: 1/8W; MFG Part: *; MFG: *; TOL: 1%; Type: Resistor; PACKAGE: 0805; Customer Specific: N/A
footprint 0805-RW
footprint 0805-SW
pins: 1, 2

## RES0805 1/8W 1% 1K OHM
designator R?, comment value 1K  (hidden comment: QCF081020-1001)
GP CHIP RES. 1K OHM 1/8W 1% 0805; Vendor Code: 10010262; SAP: T502100103399; Vendor Name: 东莞市晴远电子有限公司; DIP&SMD: SMD; Power: 1/8W; MFG Part: *; MFG: *; TOL: 1%; Type: Resistor; PACKAGE: 0805; Customer Specific: N/A
footprint 0805-RW
footprint 0805-SW
pins: 1, 2

## RES0805 1/8W 1% 1M OHM
designator R?, comment value 1M  (hidden comment: QCF081020-1004)
GP CHIP RES. 1M OHM 1/8W 1% 0805; Vendor Code: 10010262; SAP: T502100403399; Vendor Name: 东莞市晴远电子有限公司; DIP&SMD: SMD; Power: 1/8W; MFG Part: *; MFG: *; TOL: 1%; Type: Resistor; PACKAGE: 0805; Customer Specific: N/A
footprint 0805-RW
footprint 0805-SW
pins: 1, 2

## RES0805 1/8W 1% 2 OHM
designator R?, comment value 2R  (hidden comment: QCF081020-2008)
CHIP RES. 2 OHM 1/8W 1% 0805; Vendor Code: 10010262; SAP: T502200B03399; Vendor Name: 东莞市晴远电子有限公司; DIP&SMD: SMD; Power: 1/8W; MFG Part: *; MFG: *; TOL: 1%; Type: Resistor; PACKAGE: 0805; Customer Specific: N/A
footprint 0805-RW
footprint 0805-SW
pins: 1, 2

## RES0805 1/8W 1% 2.2 OHM
designator R?, comment value 2.2R  (hidden comment: QCF081020-2208)
CHIP RES 2.2 OHM 1/8W 1% 0805; Vendor Code: 10010262; SAP: T502220B03399; Vendor Name: 东莞市晴远电子有限公司; DIP&SMD: SMD; Power: 1/8W; MFG Part: *; MFG: *; TOL: 1%; Type: Resistor; PACKAGE: 0805; Customer Specific: N/A
footprint 0805-RW
footprint 0805-SW
pins: 1, 2

## RES0805 1/8W 1% 2K OHM
designator R?, comment value 2K  (hidden comment: QCF081020-2001)
GP CHIP RES. 2K OHM 1/8W 1% 0805; Vendor Code: 10010262; SAP: T502200103399; Vendor Name: 东莞市晴远电子有限公司; DIP&SMD: SMD; Power: 1/8W; MFG Part: *; MFG: *; TOL: 1%; Type: Resistor; PACKAGE: 0805; Customer Specific: N/A
footprint 0805-RW
footprint 0805-SW
pins: 1, 2

## RES0805 1/8W 1% 3.3 OHM
designator R?, comment value 3.3R  (hidden comment: QCF081020-3308)
CHIP RES 3.3 OHM 1/8W 1% 0805; Vendor Code: 10010262; SAP: T502330B03399; Vendor Name: 东莞市晴远电子有限公司; DIP&SMD: SMD; Power: 1/8W; MFG Part: *; MFG: *; TOL: 1%; Type: Resistor; PACKAGE: 0805; Customer Specific: N/A
footprint 0805-RW
footprint 0805-SW
pins: 1, 2

## RES0805 1/8W 1% 3.3K OHM
designator R?, comment value 3.3K  (hidden comment: QCF081020-3301)
CHIP RES. 3.3K OHM 1/8W 1% 0805; Vendor Code: 10010262; SAP: T502330103399; Vendor Name: 东莞市晴远电子有限公司; DIP&SMD: SMD; Power: 1/8W; MFG Part: *; MFG: *; TOL: 1%; Type: Resistor; PACKAGE: 0805; Customer Specific: N/A
footprint 0805-RW
footprint 0805-SW
pins: 1, 2

## RES0805 1/8W 1% 4.7 OHM
designator R?, comment value 4.7R  (hidden comment: QCF081020-4708)
GP CHIP RES 4.7 OHM 1/8W 1% 0805; Vendor Code: 10010262; SAP: T502470B03399; Vendor Name: 东莞市晴远电子有限公司; DIP&SMD: SMD; Power: 1/8W; MFG Part: *; MFG: *; TOL: 1%; Type: Resistor; PACKAGE: 0805; Customer Specific: N/A
footprint 0805-RW
footprint 0805-SW
pins: 1, 2

## RES0805 1/8W 1% 4.7K OHM
designator R?, comment value 4.7K  (hidden comment: QCF081020-4701)
GP CHIP RES. 4.7K OHM 1/8W 1% 0805; Vendor Code: 10010262; SAP: T502470103399; Vendor Name: 东莞市晴远电子有限公司; DIP&SMD: SMD; Power: 1/8W; MFG Part: *; MFG: *; TOL: 1%; Type: Resistor; PACKAGE: 0805; Customer Specific: N/A
footprint 0805-RW
footprint 0805-SW
pins: 1, 2

## RES0805 1/8W 1% 4.99K OHM_WALSIN
designator R?, comment value 4K99  (hidden comment: T502499103399)
CHIP 4.99K OHM 100PPM +-1% 0805 WALS L; Power: 1/8W; MFG: WALSIN (華新); TOL: 1%; CREATE_Name: Nathan; DIP&SMD: SMD; Vendor Code: *; SAP: T502499103399; Vendor Name: *; MFG Part: *; Type: Resistor; CREATE_Time: 03-July-2016; PACKAGE: 0805; Customer Specific: N/A
footprint 0805-RW
footprint 0805-SW
pins: 1, 2

## RES0805 1/8W 1% 6.8 OHM_FENGHUA
designator R?  value 6R8  (hidden comment: *)
CHIP 6.8 OHM 250PPM +-1% 0805 FENGHUA; MFG Part: RS-05L6R80FT; Power: 0.125W; CREATE_NAME: Nathan; TOL: 1%; DIP&SMD: SMD; Vendor Code: *; SAP: *; Vendor Name: *; MFG: FENGHUA; Type: Resistor; CREATE_TIME: 14-Oct-2020; PACKAGE: 0805; Customer Specific: N/A
footprint 0805-RW
pins: 1, 2

## RES0805 1/8W 1% 6.8 OHM_WALSIN
designator R?  value 6R8
CHIP 6.8 OHM +-1% 0805 WALS L; MFG Part: WR08W6R80FTL; Power: 1/8W; MFG: WALSIN (華新); TOL: 1%; CREATE_Name: Nathan; DIP&SMD: SMD; Vendor Code: *; SAP: *; Vendor Name: *; Type: Resistor; CREATE_Time: 23-Oct-2020; PACKAGE: 0805; Customer Specific: N/A
footprint 0805-RW
footprint 0805-SW
pins: 1, 2

## RES0805 1/8W 1% 8.2 OHM_WALSIN
designator R?  value 8R2  (hidden comment: *)
CHIP 8.2 OHM 100PPM +-1% 0805 WALS; MFG Part: WR08W8R20FTL; Power: 0.125W; MFG: WALSIN (華新); CREATE_NAME: Nathan; TOL: 1%; DIP&SMD: SMD; Vendor Code: *; SAP: *; Vendor Name: *; Type: Resistor; CREATE_TIME: 16-Sep-2020; PACKAGE: 0805; Customer Specific: N/A
footprint 0805-RW
pins: 1, 2

## RES0805 1/8W 1% 8.2 OHM_YAGEO
designator R?  value 8R2  (hidden comment: *)
CHIP 8.2 OHM 600PPM +-1% 0805 L; MFG Part: RC0805FR-078R2L; Power: 0.125W; MFG: YAGEO; CREATE_NAME: Nathan; TOL: 1%; DIP&SMD: SMD; Vendor Code: *; SAP: *; Vendor Name: *; Type: Resistor; CREATE_TIME: 11-Sep-2020; PACKAGE: 0805; Customer Specific: N/A
footprint 0805-RW
pins: 1, 2

## RES0805 1/8W 1% 8.2K OHM
designator R?, comment value 8.2K  (hidden comment: QCF081020-8201)
GP CHIP RES. 8.2K OHM 1/8W 1% 0805; Vendor Code: 10010262; SAP: T502820103399; Vendor Name: 东莞市晴远电子有限公司; DIP&SMD: SMD; Power: 1/8W; MFG Part: *; MFG: *; TOL: 1%; Type: Resistor; PACKAGE: 0805; Customer Specific: N/A
footprint 0805-RW
footprint 0805-SW
pins: 1, 2

## RES0805 1/8W 1% 9.1K OHM
designator R?, comment value 9.1K  (hidden comment: QCF081020-9101)
CHIP RES. 9.1K OHM 1/8W 1% 0805; Vendor Code: 10010262; SAP: T502910103399; Vendor Name: 东莞市晴远电子有限公司; DIP&SMD: SMD; Power: 1/8W; MFG Part: *; MFG: *; TOL: 1%; Type: Resistor; PACKAGE: 0805; Customer Specific: N/A
footprint 0805-RW
footprint 0805-SW
pins: 1, 2

## RES0805 1/8W 1% 10 OHM
designator R?, comment value 10R  (hidden comment: QCF081020-1009)
GP CHIP RES. 10 OHM 1/8W 1% 0805; Vendor Code: 10010262; SAP: T502100A03399; Vendor Name: 东莞市晴远电子有限公司; DIP&SMD: SMD; Power: 1/8W; MFG Part: *; MFG: *; TOL: 1%; Type: Resistor; PACKAGE: 0805; Customer Specific: N/A
footprint 0805-RW
footprint 0805-SW
pins: 1, 2

## RES0805 1/8W 1% 10K OHM
designator R?, comment value 10K  (hidden comment: QCF081020-1002)
GP CHIP RES. 10K OHM 1/8W 1% 0805; Vendor Code: 10010262; SAP: T502100203399; Vendor Name: 东莞市晴远电子有限公司; DIP&SMD: SMD; Power: 1/8W; MFG Part: *; MFG: *; TOL: 1%; Type: Resistor; PACKAGE: 0805; Customer Specific: N/A
footprint 0805-RW
footprint 0805-SW
pins: 1, 2

## RES0805 1/8W 1% 15 OHM_WALSIN
designator R?  value 15R  (hidden comment: *)
CHIP 15 OHM 100PPM +-1% 0805 WALS L; MFG Part: WR08X15R0FTL; Power: 1/8W; MFG: WALSIN (華新); TOL: 1%; CREATE_Name: Nathan; DIP&SMD: SMD; Vendor Code: *; SAP: *; Vendor Name: *; Type: Resistor; CREATE_Time: 27-Aug-2020; PACKAGE: 0805; Customer Specific: N/A
footprint 0805-RW
footprint 0805-SW
pins: 1, 2

## RES0805 1/8W 1% 18 OHM_WALSIN
designator R?, comment value 18R  (hidden comment: T502018003399)
CHIP 18 OHM 100PPM +-1% 0805 WALS L; Power: 1/8W; MFG: WALSIN (華新); TOL: 1%; CREATE_Name: Nathan; DIP&SMD: SMD; Vendor Code: *; SAP: T502018003399; Vendor Name: *; MFG Part: *; Type: Resistor; CREATE_Time: 03-July-2016; PACKAGE: 0805; Customer Specific: N/A
footprint 0805-RW
footprint 0805-SW
pins: 1, 2

## RES0805 1/8W 1% 20 OHM
designator R?, comment value 20R  (hidden comment: QCF081020-2009)
CHIP RES. 20 OHM 1% 1/8W 0805; Vendor Code: 10010262; SAP: T502200A03399; Vendor Name: 东莞市晴远电子有限公司; MFG: WALSIN (華新); CREATE_NAME: Nathan; DIP&SMD: SMD; Power: 1/8W; MFG Part: *; TOL: 1%; Type: Resistor; CREATE_TIME: 26-NOV-2014; PACKAGE: 0805; Customer Specific: N/A
footprint 0805-RW
footprint 0805-SW
pins: 1, 2

## RES0805 1/8W 1% 22 OHM
designator R?, comment value 22R  (hidden comment: QCF081020-2209)
CHIP RES 22 OHM 1/8W 1% 0805; Vendor Code: 10010262; SAP: T502220A03399; Vendor Name: 东莞市晴远电子有限公司; DIP&SMD: SMD; Power: 1/8W; MFG Part: *; MFG: *; TOL: 1%; Type: Resistor; PACKAGE: 0805; Customer Specific: N/A
footprint 0805-RW
footprint 0805-SW
pins: 1, 2

## RES0805 1/8W 1% 27 OHM
designator R?, comment value 27R  (hidden comment: QCF081020-2709)
CHIP RES 27 OHM 1/8W 1% 0805; Vendor Code: 10010262; SAP: T502270A03399; Vendor Name: 东莞市晴远电子有限公司; DIP&SMD: SMD; Power: 1/8W; MFG Part: *; MFG: *; TOL: 1%; Type: Resistor; PACKAGE: 0805; Customer Specific: N/A
footprint 0805-RW
footprint 0805-SW
pins: 1, 2

## RES0805 1/8W 1% 33 OHM
designator R?, comment value 33R  (hidden comment: QCF081022-3309)
CHIP RES 33 OHM 1/8W 1% 0805; Vendor Code: 10010262; SAP: T502330A03399; Vendor Name: 东莞市晴远电子有限公司; DIP&SMD: SMD; Power: 1/8W; MFG Part: *; MFG: *; TOL: 1%; Type: Resistor; PACKAGE: 0805; Customer Specific: N/A
footprint 0805-RW
footprint 0805-SW
pins: 1, 2

## RES0805 1/8W 1% 33K OHM
designator R?, comment value 33K  (hidden comment: QCF081020-3302)
GP CHIP RES. 33K OHM 1/8W 1% 0805; Vendor Code: 10010262; SAP: T502330203399; Vendor Name: 东莞市晴远电子有限公司; DIP&SMD: SMD; Power: 1/8W; MFG Part: *; MFG: *; TOL: 1%; Type: Resistor; PACKAGE: 0805; Customer Specific: N/A
footprint 0805-RW
footprint 0805-SW
pins: 1, 2

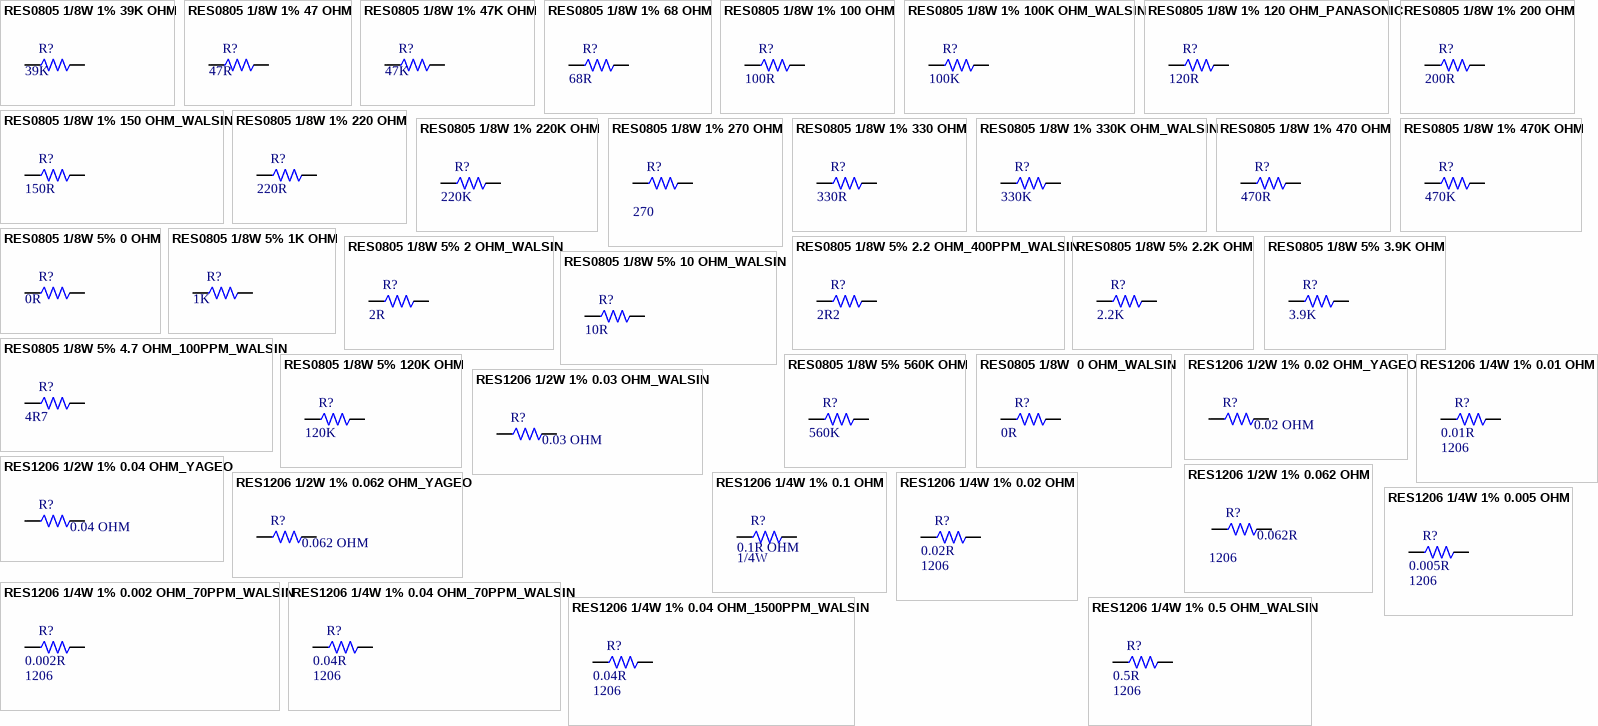
[diagram p19: symbols RES0805 1/8W 1% 39K OHM to RES1206 1/4W 1% 0.5 OHM_WALSIN]

## RES0805 1/8W 1% 39K OHM
designator R?, comment value 39K  (hidden comment: QCF081020-3902)
GP CHIP RES. 39K OHM 1/8W 1% 0805; Vendor Code: 10010262; SAP: T502390203399; Vendor Name: 东莞市晴远电子有限公司; DIP&SMD: SMD; Power: 1/8W; MFG Part: *; MFG: *; TOL: 1%; Type: Resistor; PACKAGE: 0805; Customer Specific: N/A
footprint 0805-RW
footprint 0805-SW
pins: 1, 2

## RES0805 1/8W 1% 47 OHM
designator R?, comment value 47R  (hidden comment: QCF081020-4709)
GP CHIP RES. 47 OHM 1/8W 1% 0805; Vendor Code: 10010262; SAP: T502470A03399; Vendor Name: 东莞市晴远电子有限公司; DIP&SMD: SMD; Power: 1/8W; MFG Part: *; MFG: *; TOL: 1%; Type: Resistor; PACKAGE: 0805; Customer Specific: N/A
footprint 0805-RW
footprint 0805-SW
pins: 1, 2

## RES0805 1/8W 1% 47K OHM
designator R?, comment value 47K  (hidden comment: QCF081020-4702)
GP CHIP RES. 47K OHM 1/8W 1% 0805; Vendor Code: 10010262; SAP: T502470203399; Vendor Name: 东莞市晴远电子有限公司; DIP&SMD: SMD; Power: 1/8W; MFG Part: *; MFG: *; TOL: 1%; Type: Resistor; PACKAGE: 0805; Customer Specific: N/A
footprint 0805-RW
footprint 0805-SW
pins: 1, 2

## RES0805 1/8W 1% 68 OHM
designator R?, comment value 68R  (hidden comment: QCF081020-6809)
GP CHIP RES. 68 OHM 1/8W 1% 0805; SAP: T502680A03399; MFG: WALSIN; DIP&SMD: SMD; Vendor Code: *; Power: 1/8W; Vendor Name: *; MFG Part: *; TOL: 1%; Type: Resistor; PACKAGE: 0805; Customer Specific: N/A
footprint 0805-RW
footprint 0805-SW
pins: 1, 2

## RES0805 1/8W 1% 100 OHM
designator R?, comment value 100R  (hidden comment: QCF081022-1000)
GP CHIP RES. 100 OHM 1/8W 1% 0805; Vendor Code: 10010262; SAP: T502100003399; Vendor Name: 东莞市晴远电子有限公司; MFG: WALSIN (華新); DIP&SMD: SMD; Power: 1/8W; MFG Part: *; TOL: 1%; Type: Resistor; PACKAGE: 0805; Customer Specific: N/A
footprint 0805-RW
footprint 0805-SW
pins: 1, 2

## RES0805 1/8W 1% 100K OHM_WALSIN
designator R?, comment value 100K  (hidden comment: T502100303399)
CHIP 100K OHM 100PPM +-1% 0805 WALS L; Power: 1/8W; MFG: WALSIN (華新); TOL: 1%; CREATE_Name: Nathan; DIP&SMD: SMD; Vendor Code: *; SAP: T502100303399; Vendor Name: *; MFG Part: *; Type: Resistor; CREATE_Time: 03-July-2016; PACKAGE: 0805; Customer Specific: N/A
footprint 0805-RW
footprint 0805-SW
pins: 1, 2

## RES0805 1/8W 1% 120 OHM_PANASONIC
designator R?  value 120R  (hidden comment: *)
GP CHIP RES. 120 OHM 1/8W 1% 0805; MFG Part: ERJ-U6SFR12V; MFG: Panasonic; DIP&SMD: SMD; CREATE_NAME: Nathan; Vendor Code: *; SAP: *; Power: 1/8W; Vendor Name: *; TOL: 1%; Type: Resistor; PACKAGE: 0805; Customer Specific: N/A; CREATE_TIME: 09-SEP-2020
footprint 0805-RW
footprint 0805-SW
pins: 1, 2

## RES0805 1/8W 1% 150 OHM_WALSIN
designator R?, comment value 150R  (hidden comment: T502150003399)
CHIP 150 OHM 100PPM +-1% 0805 WALS L; Power: 1/8W; MFG: WALSIN (華新); TOL: 1%; CREATE_Name: Nathan; DIP&SMD: SMD; Vendor Code: *; SAP: T502150003399; Vendor Name: *; MFG Part: *; Type: Resistor; CREATE_Time: 12-Jun-2020; PACKAGE: 0805; Customer Specific: N/A
footprint 0805-RW
footprint 0805-SW
pins: 1, 2

## RES0805 1/8W 1% 200 OHM
designator R?, comment value 200R  (hidden comment: QCF081020-2000)
GP CHIP RES. 200 OHM 1/8W 1% 0805; Vendor Code: 10010262; SAP: T502200003399; Vendor Name: 东莞市晴远电子有限公司; DIP&SMD: SMD; Power: 1/8W; MFG Part: *; MFG: *; TOL: 1%; Type: Resistor; PACKAGE: 0805; Customer Specific: N/A
footprint 0805-RW
footprint 0805-SW
pins: 1, 2

## RES0805 1/8W 1% 220 OHM
designator R?, comment value 220R  (hidden comment: QCF081020-2200)
GP CHIP RES. 220 OHM 1/8W 1% 0805; Vendor Code: 10010262; SAP: T502220003399; Vendor Name: 东莞市晴远电子有限公司; DIP&SMD: SMD; Power: 1/8W; MFG Part: *; MFG: *; TOL: 1%; Type: Resistor; PACKAGE: 0805; Customer Specific: N/A
footprint 0805-RW
footprint 0805-SW
pins: 1, 2

## RES0805 1/8W 1% 220K OHM
designator R?, comment value 220K  (hidden comment: QCF081020-2203)
GP CHIP RES. 220K OHM 1/8W 1% 0805; Vendor Code: 10010262; SAP: T502220303399; Vendor Name: 东莞市晴远电子有限公司; DIP&SMD: SMD; Power: 1/8W; MFG Part: *; MFG: *; TOL: 1%; Type: Resistor; PACKAGE: 0805; Customer Specific: N/A
footprint 0805-RW
footprint 0805-SW
pins: 1, 2

## RES0805 1/8W 1% 270 OHM
designator R?, comment value 270  (hidden comment: QCF081020-2700)
GP CHIP RES. 270 OHM 1/8W 1% 0805; SAP: T502270003399; CREATE_NAME: Tom; DIP&SMD: SMD; TOL: 1%; MFG Part: *; MFG: *; Vendor Code: *; Vendor Name: *; Type: Resistor; CREATE_TIME: 08-Apr-2015; Power: 1/8W; Package: 0805; Customer Specific: N/A
footprint 0805-RW
pins: 1, 2

## RES0805 1/8W 1% 330 OHM
designator R?, comment value 330R  (hidden comment: QCF081020-3300)
CHIP RES. 330 OHM 1/8W 1% 0805; Vendor Code: 10010262; SAP: T502330003399; Vendor Name: 东莞市晴远电子有限公司; DIP&SMD: SMD; Power: 1/8W; MFG Part: *; MFG: *; TOL: 1%; Type: Resistor; PACKAGE: 0805; Customer Specific: N/A
footprint 0805-RW
footprint 0805-SW
pins: 1, 2

## RES0805 1/8W 1% 330K OHM_WALSIN
designator R?, comment value 330K  (hidden comment: T502330303399)
CHIP 330K OHM  100PPM +-1% 0805 WALS L; Power: 1/8W; MFG: WALSIN (華新); TOL: 1%; CREATE_Name: Nathan; DIP&SMD: SMD; Vendor Code: *; SAP: T502330303399; Vendor Name: *; MFG Part: *; Type: Resistor; CREATE_Time: 03-July-2016; PACKAGE: 0805; Customer Specific: N/A
footprint 0805-RW
footprint 0805-SW
pins: 1, 2